# Altium footprint library Audio.PcbLib: 2 footprints
Each footprint in its own frame and in the unit in brackets; x right, y up, seen from the top. Pads: shape width x height; smd on the part's side, far side on the other; paste and mask are expansions set on the pad; w line width, h text height; cw(c..) or ccw(c..) is an arc to the next point about the centre after c.
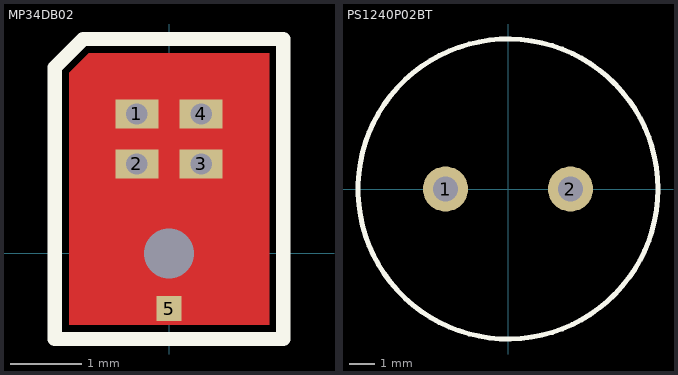
[diagram p0: the footprints below, top view; thin cyan lines are the x and y axes]

## MP34DB02 [mm] "MP34DB02"
pads (6):
  round 0 hole 0.7: 0(0,0)
  rect 0.6x0.4 hole 0.3: 1(-0.45,1.95) 2(-0.45,1.25) 3(0.45,1.25) 4(0.45,1.95)
  rect 0.35x0.35 smd: 5(0,-0.775)
Top Layer:
  pour cut-out: -1.4,-1 -1.4,2.525 -1.125,2.8 1.4,2.8 1.4,-1
  region: -1.4,0.9 -1.4,2.525 -1.125,2.8 1.4,2.8 1.4,0.9 1.05,0.9 1.05,2.45 -1.05,2.45 -1.05,0.9
  region: -1.4,-1 -1.4,0.9 -1.05,0.9 -1.05,-0.65 -0.775,-0.65 -0.747,-0.646 -0.701,-0.617 -0.677,-0.568 -0.682,-0.513 -0.696,-0.489 -0.763,-0.393 -0.84,-0.173 -0.856,0.06 -0.808,0.288 -0.7,0.495 -0.541,0.666 -0.341,0.787 -0.117,0.85 0,0.85 0,0.55 -0.107,0.539 -0.306,0.457 -0.457,0.306 -0.539,0.107 -0.539,-0.107 -0.457,-0.306 -0.306,-0.457 -0.107,-0.539 0,-0.55 0,-1
  region: 1.4,-1 1.4,0.9 1.05,0.9 1.05,-0.65 0.775,-0.65 0.747,-0.646 0.701,-0.617 0.677,-0.568 0.682,-0.513 0.696,-0.489 0.763,-0.393 0.84,-0.173 0.856,0.06 0.808,0.288 0.7,0.495 0.541,0.666 0.341,0.787 0.117,0.85 0,0.85 0,0.55 0.107,0.539 0.306,0.457 0.457,0.306 0.539,0.107 0.539,-0.107 0.457,-0.306 0.306,-0.457 0.107,-0.539 0,-0.55 0,-1
Top Overlay:
  lines w0.2: -1.6,-1.2 1.6,-1.2 1.6,3 -1.2,3 -1.6,2.6 -1.6,-1.2
Top Solder:
  region: -1.5,-1.1 1.5,-1.1 1.5,2.9 -1.5,2.9
3D body: height 1, standoff 0, extent -1.4,-1 1.4,2.8

## PS1240P02BT [mm] "Пьезоизлучатель"
height 6.5
pads (2):
  round 1.8 hole 1: 1(-2.5,0) 2(2.5,0)
Top Overlay:
  circle w0.2: c0,0 r6
3D body "PS1240P02BT.STEP": height 6.5, standoff -3, extent -6.1,-6.2 6.1,6